# Altium schematic symbol library MMSS8050.Schlib: 1 symbol
Pins are listed as number, name and electrical type; pins without a type are passive.

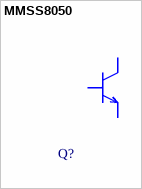
[diagram p0: symbol MMSS8050]

## MMSS8050
designator Q?
25V 1.5A NPN
pins: 1 B, 2 E, 3 C